# Altium integrated library NSC MiscPower.IntLib: 675 symbols (part 5 of 17)
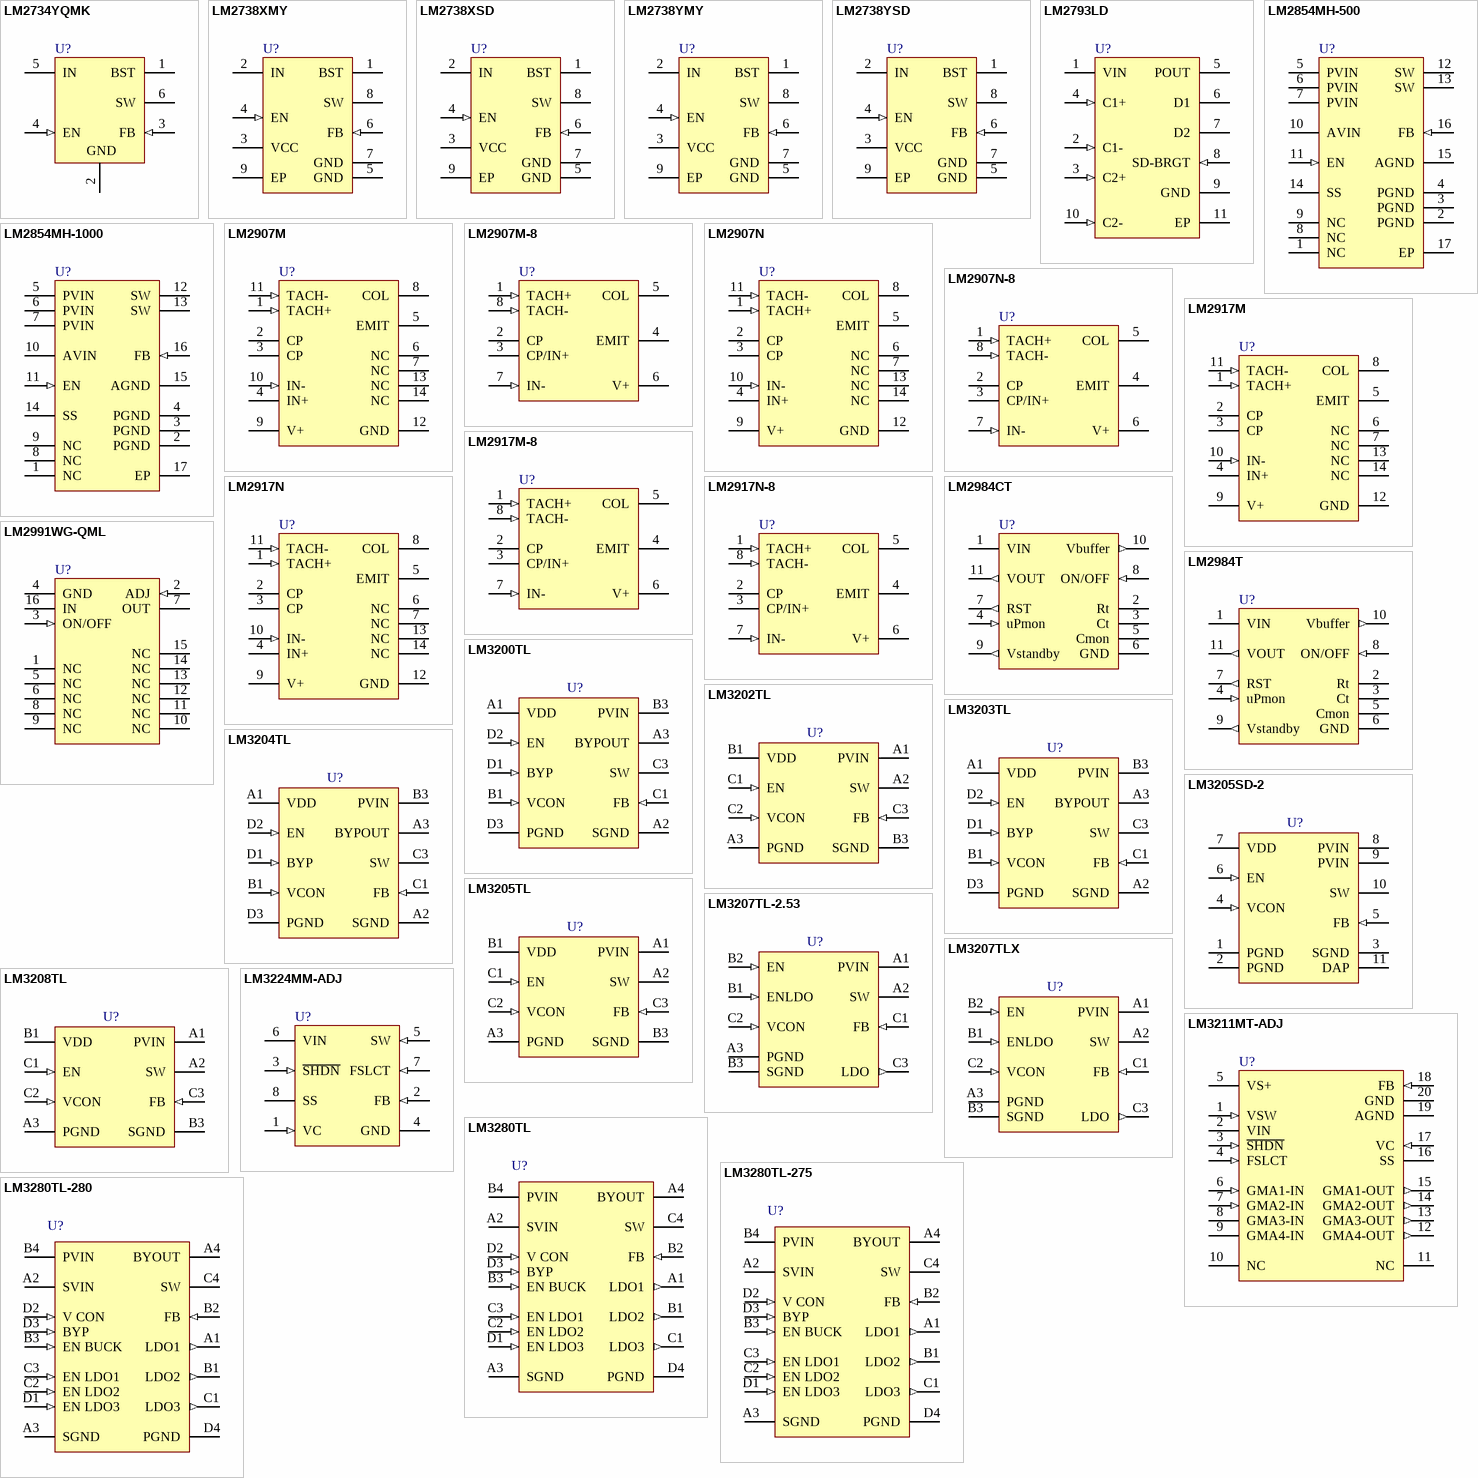
[diagram p26: symbols LM2734YQMK to LM3280TL-280]

## LM2738YSD
designator U?
550kHz/1.6MHz 1.5A Step-Down DC-DC Switching Regulator; PartNumber: LM2738YSD; Manufacturer: National Semiconductor; CompType: MiscPower; PackageTopMarking: ZXYTT*L174B; Published: 4-Dec-2008; DatasheetVersion: Apr-2008; PackageVersion: revA, Aug-2003; PackageReference: SDA08A; Publisher: Altium Limited; PackageDescription: LLP, Plastic, Dual, 3 x 3 x 0.8mm Body, 8 Lead, 0.5mm Pitch, No Pullback; RoHS: Y; PinCount: 8; DigiKeyPartNumber: LM2738YSDCT-ND; ComponentLink1Description: LM2738 Datasheet; ComponentLink1URL: http://www.national.com/ds/LM/LM2738.pdf; ComponentLink2Description: LM2738 Web Page; ComponentLink2URL: http://www.national.com/pf/LM/LM2738.html; ComponentLink3Description: SDA08A Package Page; ComponentLink3URL: http://www.national.com/packaging/folders/sda08a.html
footprint SDA08A (SON, 8-Leads, Body 3x3mm, Pitch 0.5mm, NSC Recommended)
pins: 1 BST, 2 IN (power), 3 VCC (power), 4 EN (in), 5 GND (power), 6 FB (in), 7 GND (power), 8 SW (power), 9 EP (power)

## LM2793LD
designator U?
Low Noise White LED Constant Current Supply with Dual Function Brightness Control; PartNumber: LM2793LD; Manufacturer: National Semiconductor; CompType: MiscPower; PackageTopMarking: ZXYTT*L2793; Published: 4-Dec-2008; DatasheetVersion: Feb-2003; PackageVersion: revB, Jan-2003; PackageReference: LDA10A; Publisher: Altium Limited; PackageDescription: LLP, Plastic, Dual, 3 x 3 x 0.75mm Body, 10 Lead, 0.5mm Pitch; RoHS: Y; PinCount: 10; DigiKeyPartNumber: LM2793LDEV-ND; ComponentLink1Description: LM2793 Datasheet; ComponentLink1URL: http://www.national.com/ds/LM/LM2793.pdf; ComponentLink2Description: LM2793 Web Page; ComponentLink2URL: http://www.national.com/pf/LM/LM2793.html; ComponentLink3Description: LDA10A Package Page; ComponentLink3URL: http://www.national.com/packaging/folders/lda10a.html
footprint LDA10A (PSON, 10-Leads, Body 3x3mm, Pitch 0.5mm, NSC Recommended)
pins: 1 VIN (power), 2 C1- (in), 3 C2+ (in), 4 C1+ (in), 5 POUT (power), 6 D1 (oc), 7 D2 (oc), 8 SD-BRGT (in), 9 GND (power), 10 C2- (in), 11 EP (power)

## LM2854MH-500
designator U?
4A 500 kHz / 1 MHz PowerWise Synchronous SIMPLE SWITCHER Buck Regulator; PartNumber: LM2854MH-500; Manufacturer: National Semiconductor; CompType: MiscPower; PackageTopMarking: NSUZXYTT*LM2854*-500; Published: 4-Dec-2008; DatasheetVersion: Apr-2008; PackageVersion: revA, Apr-2003; PackageReference: MXA16A; Publisher: Altium Limited; PackageDescription: Molded TSSOP, Jedec, Exposed Pad, 5.0 x 4.4 x 0.9mm Body,16 Lead, 0.65mm Pitch; RoHS: Y; PinCount: 16; DigiKeyPartNumber: LM2854MH-500-ND; Code_JEDEC: MO-153-ABT; ComponentLink1Description: LM2854 Datasheet; ComponentLink1URL: http://www.national.com/ds/LM/LM2854.pdf; ComponentLink2Description: LM2854 Web Page; ComponentLink2URL: http://www.national.com/pf/LM/LM2854.html; ComponentLink3Description: MXA16A Package Page; ComponentLink3URL: http://www.national.com/packaging/folders/mxa16a.html
footprint MXA16A_N (TSOP, 16-Leads, Body 5x4.4mm, Pitch 0.65mm, Exposed Pad, IPC Medium Density)
footprint MXA16A_L (TSOP, 16-Leads, Body 5x4.4mm, Pitch 0.65mm, Exposed Pad, IPC High Density)
footprint MXA16A_M (TSOP, 16-Leads, Body 5x4.4mm, Pitch 0.65mm, Exposed Pad, IPC Low Density)
pins: 1 NC, 2 PGND (power), 3 PGND (power), 4 PGND (power), 5 PVIN (power), 6 PVIN (power), 7 PVIN (power), 8 NC, 9 NC, 10 AVIN (power), 11 EN (in), 12 SW (power), 13 SW (power), 14 SS, 15 AGND (power), 16 FB (in), 17 EP (power)

## LM2854MH-1000
designator U?
4A 500 kHz / 1 MHz PowerWise Synchronous SIMPLE SWITCHER Buck Regulator; PartNumber: LM2854MH-1000; Manufacturer: National Semiconductor; CompType: MiscPower; PackageTopMarking: NSUZXYTT*LM2854*-1000; Published: 4-Dec-2008; DatasheetVersion: Apr-2008; PackageVersion: revA, Apr-2003; PackageReference: MXA16A; Publisher: Altium Limited; PackageDescription: Molded TSSOP, Jedec, Exposed Pad, 5.0 x 4.4 x 0.9mm Body,16 Lead, 0.65mm Pitch; RoHS: Y; PinCount: 16; DigiKeyPartNumber: LM2854MH-1000-ND; Code_JEDEC: MO-153-ABT; ComponentLink1Description: LM2854 Datasheet; ComponentLink1URL: http://www.national.com/ds/LM/LM2854.pdf; ComponentLink2Description: LM2854 Web Page; ComponentLink2URL: http://www.national.com/pf/LM/LM2854.html; ComponentLink3Description: MXA16A Package Page; ComponentLink3URL: http://www.national.com/packaging/folders/mxa16a.html
footprint MXA16A_N (TSOP, 16-Leads, Body 5x4.4mm, Pitch 0.65mm, Exposed Pad, IPC Medium Density)
footprint MXA16A_L (TSOP, 16-Leads, Body 5x4.4mm, Pitch 0.65mm, Exposed Pad, IPC High Density)
footprint MXA16A_M (TSOP, 16-Leads, Body 5x4.4mm, Pitch 0.65mm, Exposed Pad, IPC Low Density)
pins: 1 NC, 2 PGND (power), 3 PGND (power), 4 PGND (power), 5 PVIN (power), 6 PVIN (power), 7 PVIN (power), 8 NC, 9 NC, 10 AVIN (power), 11 EN (in), 12 SW (power), 13 SW (power), 14 SS, 15 AGND (power), 16 FB (in), 17 EP (power)

## LM2907M
designator U?
Frequency to Voltage Converter; PartNumber: LM2907M; Manufacturer: National Semiconductor; CompType: MiscPower; PackageTopMarking: NSUZXYTT*LM2907M; Published: 4-Dec-2008; DatasheetVersion: May-2003; PackageVersion: revJ, Jan-1996; PackageReference: M14A; Publisher: Altium Limited; PackageDescription: Molded Package S.O., .150in Wide, 14 Lead; RoHS: O; PinCount: 14; DigiKeyPartNumber: LM2907M-ND; Code_JEDEC: MS-012AB; Code_IPC: SOIC127P600-14; ComponentLink1Description: LM2907 Datasheet; ComponentLink1URL: http://www.national.com/ds/LM/LM2907.pdf; ComponentLink2Description: LM2907 Web Page; ComponentLink2URL: http://www.national.com/pf/LM/LM2907.html; ComponentLink3Description: M14A Package Page; ComponentLink3URL: http://www.national.com/packaging/folders/m14a.html
footprint M14A_N (SOIC, 14-Leads, Body 8.6x3.9mm, Pitch 1.27mm, IPC Medium Density)
footprint M14A_L (SOIC, 14-Leads, Body 8.6x3.9mm, Pitch 1.27mm, IPC High Density)
footprint M14A_M (SOIC, 14-Leads, Body 8.6x3.9mm, Pitch 1.27mm, IPC Low Density)
pins: 1 TACH+ (in), 2 CP, 3 CP, 4 IN+, 5 EMIT, 6 NC, 7 NC, 8 COL, 9 V+ (power), 10 IN- (in), 11 TACH- (in), 12 GND (power), 13 NC, 14 NC

## LM2907M-8
designator U?
Frequency to Voltage Converter; PartNumber: LM2907M-8; Manufacturer: National Semiconductor; CompType: MiscPower; PackageTopMarking: NSZXTT*LM29*07M-8; Published: 4-Dec-2008; DatasheetVersion: May-2003; PackageVersion: revL, Sep-2006; PackageReference: M08A; Publisher: Altium Limited; PackageDescription: SOIC Narrow, 4.9 x 3.9 x 1.45mm, 8 Lead, 1.27mm Pitch; RoHS: Y; PinCount: 8; DigiKeyPartNumber: LM2907M-8-ND; Code_JEDEC: MS-012-AA; Code_IPC: SOIC127P600-8; ComponentLink1Description: LM2907 Datasheet; ComponentLink1URL: http://www.national.com/ds/LM/LM2907.pdf; ComponentLink2Description: LM2907 Web Page; ComponentLink2URL: http://www.national.com/pf/LM/LM2907.html; ComponentLink3Description: M08A Package Page; ComponentLink3URL: http://www.national.com/packaging/folders/m08a.html
footprint M08A_N (SOIC, 8-Leads, Body 4.9x3.9mm, Pitch 1.27mm, IPC Medium Density)
footprint M08A_L (SOIC, 8-Leads, Body 4.9x3.9mm, Pitch 1.27mm, IPC High Density)
footprint M08A_M (SOIC, 8-Leads, Body 4.9x3.9mm, Pitch 1.27mm, IPC Low Density)
pins: 1 TACH+ (in), 2 CP, 3 CP/IN+, 4 EMIT, 5 COL, 6 V+ (power), 7 IN- (in), 8 TACH- (in)

## LM2907N
designator U?
Frequency to Voltage Converter; PartNumber: LM2907N; Manufacturer: National Semiconductor; CompType: MiscPower; PackageTopMarking: NSUZXYYTTE#*LM2907N; Published: 4-Dec-2008; DatasheetVersion: May-2003; PackageVersion: revG, May-2006; PackageReference: N14A; Publisher: Altium Limited; PackageDescription: MDIP, .750 x .250 x.130in, 14 Lead, .100in Pitch; RoHS: O; PinCount: 14; DigiKeyPartNumber: LM2907N-ND; Code_JEDEC: MS-001-AA; ComponentLink1Description: LM2907 Datasheet; ComponentLink1URL: http://www.national.com/ds/LM/LM2907.pdf; ComponentLink2Description: LM2907 Web Page; ComponentLink2URL: http://www.national.com/pf/LM/LM2907.html; ComponentLink3Description: N14A Package Page; ComponentLink3URL: http://www.national.com/packaging/folders/n14a.html
footprint N14A (DIP, 14-Leads, Row Spacing 7.62mm, Pitch 2.54mm, Body 19.56x6.35mm)
pins: 1 TACH+ (in), 2 CP, 3 CP, 4 IN+, 5 EMIT, 6 NC, 7 NC, 8 COL, 9 V+ (power), 10 IN- (in), 11 TACH- (in), 12 GND (power), 13 NC, 14 NC

## LM2907N-8
designator U?
Frequency to Voltage Converter; PartNumber: LM2907N-8; Manufacturer: National Semiconductor; CompType: MiscPower; PackageTopMarking: NSUZXYTT*LM*2907N-8; Published: 4-Dec-2008; DatasheetVersion: May-2003; PackageVersion: revG, May-2006; PackageReference: N08E; Publisher: Altium Limited; PackageDescription: MDIP, .365 x .250 x .130in, 8 Lead, .100in Pitch; RoHS: O; PinCount: 8; DigiKeyPartNumber: LM2907N-8-ND; Code_JEDEC: MS-001-BA; ComponentLink1Description: LM2907 Datasheet; ComponentLink1URL: http://www.national.com/ds/LM/LM2907.pdf; ComponentLink2Description: LM2907 Web Page; ComponentLink2URL: http://www.national.com/pf/LM/LM2907.html; ComponentLink3Description: N08E Package Page; ComponentLink3URL: http://www.national.com/packaging/folders/n08e.html
footprint N08E (DIP, 8-Leads, Row Spacing 7.62mm, Pitch 2.54mm, Body 9.91x6.35mm)
pins: 1 TACH+ (in), 2 CP, 3 CP/IN+, 4 EMIT, 5 COL, 6 V+ (power), 7 IN- (in), 8 TACH- (in)

## LM2917M
designator U?
Frequency to Voltage Converter; PartNumber: LM2917M; Manufacturer: National Semiconductor; CompType: MiscPower; PackageTopMarking: NSUZXYTT*LM2917M; Published: 4-Dec-2008; DatasheetVersion: May-2003; PackageVersion: revJ, Jan-1996; PackageReference: M14A; Publisher: Altium Limited; PackageDescription: Molded Package S.O., .150in Wide, 14 Lead; RoHS: O; PinCount: 14; DigiKeyPartNumber: LM2917M-ND; Code_JEDEC: MS-012AB; Code_IPC: SOIC127P600-14; ComponentLink1Description: LM2917 Datasheet; ComponentLink1URL: http://www.national.com/ds/LM/LM2917.pdf; ComponentLink2Description: LM2917 Web Page; ComponentLink2URL: http://www.national.com/pf/LM/LM2917.html; ComponentLink3Description: M14A Package Page; ComponentLink3URL: http://www.national.com/packaging/folders/m14a.html
footprint M14A_N (SOIC, 14-Leads, Body 8.6x3.9mm, Pitch 1.27mm, IPC Medium Density)
footprint M14A_L (SOIC, 14-Leads, Body 8.6x3.9mm, Pitch 1.27mm, IPC High Density)
footprint M14A_M (SOIC, 14-Leads, Body 8.6x3.9mm, Pitch 1.27mm, IPC Low Density)
pins: 1 TACH+ (in), 2 CP, 3 CP, 4 IN+, 5 EMIT, 6 NC, 7 NC, 8 COL, 9 V+ (power), 10 IN- (in), 11 TACH- (in), 12 GND (power), 13 NC, 14 NC

## LM2917M-8
designator U?
Frequency to Voltage Converter; PartNumber: LM2917M-8; Manufacturer: National Semiconductor; CompType: MiscPower; PackageTopMarking: NSZXTT*LM29*17M-8; Published: 4-Dec-2008; DatasheetVersion: May-2003; PackageVersion: revL, Sep-2006; PackageReference: M08A; Publisher: Altium Limited; PackageDescription: SOIC Narrow, 4.9 x 3.9 x 1.45mm, 8 Lead, 1.27mm Pitch; RoHS: O; PinCount: 8; DigiKeyPartNumber: LM2917M-8-ND; Code_JEDEC: MS-012-AA; Code_IPC: SOIC127P600-8; ComponentLink1Description: LM2917 Datasheet; ComponentLink1URL: http://www.national.com/ds/LM/LM2917.pdf; ComponentLink2Description: LM2917 Web Page; ComponentLink2URL: http://www.national.com/pf/LM/LM2917.html; ComponentLink3Description: M08A Package Page; ComponentLink3URL: http://www.national.com/packaging/folders/m08a.html
footprint M08A_N (SOIC, 8-Leads, Body 4.9x3.9mm, Pitch 1.27mm, IPC Medium Density)
footprint M08A_L (SOIC, 8-Leads, Body 4.9x3.9mm, Pitch 1.27mm, IPC High Density)
footprint M08A_M (SOIC, 8-Leads, Body 4.9x3.9mm, Pitch 1.27mm, IPC Low Density)
pins: 1 TACH+ (in), 2 CP, 3 CP/IN+, 4 EMIT, 5 COL, 6 V+ (power), 7 IN- (in), 8 TACH- (in)

## LM2917N
designator U?
Frequency to Voltage Converter; PartNumber: LM2917N; Manufacturer: National Semiconductor; CompType: MiscPower; PackageTopMarking: NSUZXYYTTE#*LM2917N; Published: 4-Dec-2008; DatasheetVersion: May-2003; PackageVersion: revG, May-2006; PackageReference: N14A; Publisher: Altium Limited; PackageDescription: MDIP, .750 x .250 x.130in, 14 Lead, .100in Pitch; RoHS: O; PinCount: 14; DigiKeyPartNumber: LM2917N-ND; Code_JEDEC: MS-001-AA; ComponentLink1Description: LM2917 Datasheet; ComponentLink1URL: http://www.national.com/ds/LM/LM2917.pdf; ComponentLink2Description: LM2917 Web Page; ComponentLink2URL: http://www.national.com/pf/LM/LM2917.html; ComponentLink3Description: N14A Package Page; ComponentLink3URL: http://www.national.com/packaging/folders/n14a.html
footprint N14A (DIP, 14-Leads, Row Spacing 7.62mm, Pitch 2.54mm, Body 19.56x6.35mm)
pins: 1 TACH+ (in), 2 CP, 3 CP, 4 IN+, 5 EMIT, 6 NC, 7 NC, 8 COL, 9 V+ (power), 10 IN- (in), 11 TACH- (in), 12 GND (power), 13 NC, 14 NC

## LM2917N-8
designator U?
Frequency to Voltage Converter; PartNumber: LM2917N-8; Manufacturer: National Semiconductor; CompType: MiscPower; PackageTopMarking: NSUZXYTT*LM*2917N-8; Published: 4-Dec-2008; DatasheetVersion: May-2003; PackageVersion: revG, May-2006; PackageReference: N08E; Publisher: Altium Limited; PackageDescription: MDIP, .365 x .250 x .130in, 8 Lead, .100in Pitch; RoHS: O; PinCount: 8; DigiKeyPartNumber: LM2917N-8-ND; Code_JEDEC: MS-001-BA; ComponentLink1Description: LM2917 Datasheet; ComponentLink1URL: http://www.national.com/ds/LM/LM2917.pdf; ComponentLink2Description: LM2917 Web Page; ComponentLink2URL: http://www.national.com/pf/LM/LM2917.html; ComponentLink3Description: N08E Package Page; ComponentLink3URL: http://www.national.com/packaging/folders/n08e.html
footprint N08E (DIP, 8-Leads, Row Spacing 7.62mm, Pitch 2.54mm, Body 9.91x6.35mm)
pins: 1 TACH+ (in), 2 CP, 3 CP/IN+, 4 EMIT, 5 COL, 6 V+ (power), 7 IN- (in), 8 TACH- (in)

## LM2984CT
designator U?
Microprocessor Power Supply System; PartNumber: LM2984CT; Manufacturer: National Semiconductor; CompType: MiscPower; PackageTopMarking: NSUZXYTTE#*LM2984CT*P+; Published: 4-Dec-2008; DatasheetVersion: May-1989; PackageVersion: revA, Mar-1987; PackageReference: TA11B; Publisher: Altium Limited; PackageDescription: TO-220, Molded, .788 x .421in Body, 11 Lead, .067in Pitch; RoHS: Y; PinCount: 11; DigiKeyPartNumber: LM2984CT-ND; ComponentLink1Description: LM2984C Datasheet; ComponentLink1URL: http://www.national.com/ds/LM/LM2984C.pdf; ComponentLink2Description: LM2984C Web Page; ComponentLink2URL: http://www.national.com/pf/LM/LM2984C.html; ComponentLink3Description: TA11B Package Page; ComponentLink3URL: http://www.national.com/packaging/folders/ta11b.html
footprint TA11B (TO, Thru-Hole, Vertical, Heatsink Mounted; 11 Bent Staggered Leads; Pitch 1.7 mm)
pins: 1 VIN (power), 2 Rt, 3 Ct, 4 uPmon (in), 5 Cmon, 6 GND (power), 7 RST (out), 8 ON/OFF (in), 9 Vstandby (out), 10 Vbuffer (out), 11 VOUT (out)

## LM2984T
designator U?
Microprocessor Power Supply System; PartNumber: LM2984T; Manufacturer: National Semiconductor; CompType: MiscPower; PackageTopMarking: NSUZXYTTE#*LM2984T; Published: 4-Dec-2008; DatasheetVersion: Apr-1998; PackageVersion: revA, Mar-1987; PackageReference: TA11B; Publisher: Altium Limited; PackageDescription: TO-220, Molded, .788 x .421in Body, 11 Lead, .067in Pitch; RoHS: N; PinCount: 11; DigiKeyPartNumber: LM2984T-ND; ComponentLink1Description: LM2984 Datasheet; ComponentLink1URL: http://www.national.com/ds/LM/LM2984.pdf; ComponentLink2Description: LM2984 Web Page; ComponentLink2URL: http://www.national.com/pf/LM/LM2984.html; ComponentLink3Description: TA11B Package Page; ComponentLink3URL: http://www.national.com/packaging/folders/ta11b.html
footprint TA11B (TO, Thru-Hole, Vertical, Heatsink Mounted; 11 Bent Staggered Leads; Pitch 1.7 mm)
pins: 1 VIN (power), 2 Rt, 3 Ct, 4 uPmon (in), 5 Cmon, 6 GND (power), 7 RST (out), 8 ON/OFF (in), 9 Vstandby (out), 10 Vbuffer (out), 11 VOUT (out)

## LM2991WG-QML
designator U?
Negative Low Dropout Adjustable Regulator; PartNumber: LM2991WG-QML; Manufacturer: National Semiconductor; CompType: MiscPower; PackageTopMarking: NSZSSXXYYA*LM2991WG-*QML Q 5962-*9650501QXA; Published: 4-Dec-2008; DatasheetVersion: Sep-2000; PackageVersion: revE, Jul-2007; PackageReference: WG16A; Publisher: Altium Limited; PackageDescription: Cerpack, .390 x .250 x .070in, 16 Lead, .050in Pitch, Gull Wing; RoHS: N; PinCount: 16; ComponentLink1Description: LM2991 Datasheet; ComponentLink1URL: http://www.national.com/ds/LM/LM2991.pdf; ComponentLink2Description: LM2991 Web Page; ComponentLink2URL: http://www.national.com/pf/LM/LM2991.html; ComponentLink3Description: WG16A Package Page; ComponentLink3URL: http://www.national.com/packaging/folders/wg16a.html
footprint WG16A_N (CERPACK, 16-Leads, Body 9.9x6.5mm, Pitch 1.27mm, IPC Medium Density)
footprint WG16A_L (CERPACK, 16-Leads, Body 9.9x6.5mm, Pitch 1.27mm, IPC High Density)
footprint WG16A_M (CERPACK, 16-Leads, Body 9.9x6.5mm, Pitch 1.27mm, IPC Low Density)
pins: 1 NC, 2 ADJ (in), 3 ON/OFF (in), 4 GND (power), 5 NC, 6 NC, 7 OUT (power), 8 NC, 9 NC, 10 NC, 11 NC, 12 NC, 13 NC, 14 NC, 15 NC, 16 IN (power)

## LM3200TL
designator U?
Miniature, Adjustable, Step-Down DC-DC Converter with Bypass Mode for RF Power Amplifiers; PartNumber: LM3200TL; Manufacturer: National Semiconductor; CompType: MiscPower; PackageTopMarking: XYTT*I SCUB; Published: 4-Dec-2008; DatasheetVersion: Nov-2005; PackageVersion: revD, Mar-2004; PackageReference: TLP10NHA; Publisher: Altium Limited; PackageDescription: Thin Micro SMD, 10 Bump (Large), Periperal, 0.5mm Pitch; RoHS: Y; PinCount: 10; DigiKeyPartNumber: LM3200TLCT-ND; Code_JEDEC: MO-211-BD; ComponentLink1Description: LM3200 Datasheet; ComponentLink1URL: http://www.national.com/ds/LM/LM3200.pdf; ComponentLink2Description: LM3200 Web Page; ComponentLink2URL: http://www.national.com/pf/LM/LM3200.html; ComponentLink3Description: TLP10NHA Package Page; ComponentLink3URL: http://www.national.com/packaging/folders/tlp10nha.html
footprint TLP10NHA (Micro SMD, 10-Leads, Body 2.17x1.82mm, Pitch 0.5mm, NSC Recommended)
pins: A1 VDD (power), A2 SGND (power), A3 BYPOUT (oe), B1 VCON (in), B3 PVIN (power), C1 FB (in), C3 SW, D1 BYP (in), D2 EN (in), D3 PGND (power)

## LM3202TL
designator U?
650mA Miniature, Adjustable, Step-Down DC-DC Converter for RF Power Amplifiers; PartNumber: LM3202TL; Manufacturer: National Semiconductor; CompType: MiscPower; PackageTopMarking: XVS*I 29; Published: 4-Dec-2008; DatasheetVersion: Nov-2006; PackageVersion: revC, Jan-2004; PackageReference: TLA08HPA; Publisher: Altium Limited; PackageDescription: Thin Micro SMD, 8 Bump (Large), 0.5mm Pitch; RoHS: Y; PinCount: 8; DigiKeyPartNumber: LM3202TLCT-ND; Code_JEDEC: MO-211-DD; ComponentLink1Description: LM3202 Datasheet; ComponentLink1URL: http://www.national.com/ds/LM/LM3202.pdf; ComponentLink2Description: LM3202 Web Page; ComponentLink2URL: http://www.national.com/pf/LM/LM3202.html; ComponentLink3Description: TLA08HPA Package Page; ComponentLink3URL: http://www.national.com/packaging/folders/tla08hpa.html
footprint TLA08HPA (Micro SMD, 8-Leads, Body 1.84x1.69mm, Pitch 0.5mm, NSC Recommended)
pins: A1 PVIN (power), A2 SW, A3 PGND (power), B1 VDD (power), B3 SGND (power), C1 EN (in), C2 VCON (in), C3 FB (in)

## LM3203TL
designator U?
Miniature, Adjustable, Step-Down DC-DC Converter with Bypass Mode for RF Power Amplifiers; PartNumber: LM3203TL; Manufacturer: National Semiconductor; CompType: MiscPower; PackageTopMarking: XYTT*I SFYB; Published: 4-Dec-2008; DatasheetVersion: Jul-2005; PackageVersion: revD, Mar-2004; PackageReference: TLP10NHA; Publisher: Altium Limited; PackageDescription: Thin Micro SMD, 10 Bump (Large), Periperal, 0.5mm Pitch; RoHS: Y; PinCount: 10; DigiKeyPartNumber: LM3203TLCT-ND; Code_JEDEC: MO-211-BD; ComponentLink1Description: LM3203 Datasheet; ComponentLink1URL: http://www.national.com/ds/LM/LM3203.pdf; ComponentLink2Description: LM3203 Web Page; ComponentLink2URL: http://www.national.com/pf/LM/LM3203.html; ComponentLink3Description: TLP10NHA Package Page; ComponentLink3URL: http://www.national.com/packaging/folders/tlp10nha.html
footprint TLP10NHA (Micro SMD, 10-Leads, Body 2.17x1.82mm, Pitch 0.5mm, NSC Recommended)
pins: A1 VDD (power), A2 SGND (power), A3 BYPOUT (oe), B1 VCON (in), B3 PVIN (power), C1 FB (in), C3 SW, D1 BYP (in), D2 EN (in), D3 PGND (power)

## LM3204TL
designator U?
Miniature, Adjustable, Step-Down DC-DC Converter with Bypass Mode for RF Power Amplifiers; PartNumber: LM3204TL; Manufacturer: National Semiconductor; CompType: MiscPower; PackageTopMarking: XYTT*I SJDB; Published: 4-Dec-2008; DatasheetVersion: Nov-2005; PackageVersion: revD, Mar-2004; PackageReference: TLP10NHA; Publisher: Altium Limited; PackageDescription: Thin Micro SMD, 10 Bump (Large), Periperal, 0.5mm Pitch; RoHS: Y; PinCount: 10; DigiKeyPartNumber: LM3204TLCT-ND; Code_JEDEC: MO-211-BD; ComponentLink1Description: LM3204 Datasheet; ComponentLink1URL: http://www.national.com/ds/LM/LM3204.pdf; ComponentLink2Description: LM3204 Web Page; ComponentLink2URL: http://www.national.com/pf/LM/LM3204.html; ComponentLink3Description: TLP10NHA Package Page; ComponentLink3URL: http://www.national.com/packaging/folders/tlp10nha.html
footprint TLP10NHA (Micro SMD, 10-Leads, Body 2.17x1.82mm, Pitch 0.5mm, NSC Recommended)
pins: A1 VDD (power), A2 SGND (power), A3 BYPOUT (oe), B1 VCON (in), B3 PVIN (power), C1 FB (in), C3 SW, D1 BYP (in), D2 EN (in), D3 PGND (power)

## LM3205SD-2
designator U?
650mA Miniature, Adjustable, Step-Down DC-DC Converter for RF Power Amplifiers; PartNumber: LM3205SD-2; Manufacturer: National Semiconductor; CompType: MiscPower; PackageTopMarking: ZXYTT*S006B; Published: 4-Dec-2008; DatasheetVersion: Jan-2006; PackageVersion: revA, Oct-2003; PackageReference: SDA10A; Publisher: Altium Limited; PackageDescription: LLP, Plastic, Dual, 3 x 3 x 0.8mm Body, 10 Lead, 0.5mm Pitch, No Pullback; RoHS: Y; PinCount: 10; DigiKeyPartNumber: LM3205SD-2-ND; ComponentLink1Description: LM3205 Datasheet; ComponentLink1URL: http://www.national.com/ds/LM/LM3205.pdf; ComponentLink2Description: LM3205 Web Page; ComponentLink2URL: http://www.national.com/pf/LM/LM3205.html; ComponentLink3Description: SDA10A Package Page; ComponentLink3URL: http://www.national.com/packaging/folders/sda10a.html
footprint SDA10A (SON, 10-Leads, Body 3x3 mm, Pitch 0.5mm, NSC Recommended)
pins: 1 PGND (power), 2 PGND (power), 3 SGND (power), 4 VCON (in), 5 FB (in), 6 EN (in), 7 VDD (power), 8 PVIN (power), 9 PVIN (power), 10 SW, 11 DAP (power)

## LM3205TL
designator U?
650mA Miniature, Adjustable, Step-Down DC-DC Converter for RF Power Amplifiers; PartNumber: LM3205TL; Manufacturer: National Semiconductor; CompType: MiscPower; PackageTopMarking: XVS*I 32; Published: 4-Dec-2008; DatasheetVersion: Jan-2006; PackageVersion: revC, Jan-2004; PackageReference: TLA08GNA; Publisher: Altium Limited; PackageDescription: Thin Micro SMD, 8 Bump (Large), 0.5mm Pitch; RoHS: Y; PinCount: 8; DigiKeyPartNumber: LM3205TLCT-ND; Code_JEDEC: MO-211-DD; ComponentLink1Description: LM3205 Datasheet; ComponentLink1URL: http://www.national.com/ds/LM/LM3205.pdf; ComponentLink2Description: LM3205 Web Page; ComponentLink2URL: http://www.national.com/pf/LM/LM3205.html; ComponentLink3Description: TLA08GNA Package Page; ComponentLink3URL: http://www.national.com/packaging/folders/tla08gna.html
footprint TLA08GNA (Micro SMD, 8-Leads, Body 1.82x1.67mm, Pitch 0.5mm, NSC Recommended)
pins: A1 PVIN (power), A2 SW, A3 PGND (power), B1 VDD (power), B3 SGND (power), C1 EN (in), C2 VCON (in), C3 FB (in)

## LM3207TL-2.53
designator U?
650mA Miniature, Adjustable, Step-Down DC-DC Converter for RF Power Amplifiers; PartNumber: LM3207TL-2.53; Manufacturer: National Semiconductor; CompType: MiscPower; PackageTopMarking: XVS*I 43; Published: 4-Dec-2008; DatasheetVersion: Apr-2007; PackageVersion: revC, Jan-2004; PackageReference: TLA09TTA; Publisher: Altium Limited; PackageDescription: Thin Micro SMD, 9 Bump (Large), 0.5mm Pitch; RoHS: Y; PinCount: 9; DigiKeyPartNumber: LM3207TL-2.53CT-ND; Code_JEDEC: MO-211-DD; ComponentLink1Description: LM3207 Datasheet; ComponentLink1URL: http://www.national.com/ds/LM/LM3207.pdf; ComponentLink2Description: LM3207 Web Page; ComponentLink2URL: http://www.national.com/pf/LM/LM3207.html; ComponentLink3Description: TLA09TTA Package Page; ComponentLink3URL: http://www.national.com/packaging/folders/tla09tta.html
footprint TLA09TTA (Micro SMD, 9-Leads, Body 1.95x1.95mm, Pitch 0.5mm, NSC Recommended)
pins: A1 PVIN (power), A2 SW, A3 PGND (power), B1 ENLDO (in), B2 EN (in), B3 SGND (power), C1 FB (in), C2 VCON (in), C3 LDO (out)

## LM3207TLX
designator U?
650mA Miniature, Adjustable, Step-Down DC-DC Converter for RF Power Amplifiers; PartNumber: LM3207TLX; Manufacturer: National Semiconductor; CompType: MiscPower; PackageTopMarking: XVS*I 34; Published: 4-Dec-2008; DatasheetVersion: Apr-2007; PackageVersion: revC, Jan-2004; PackageReference: TLA09TTA; Publisher: Altium Limited; PackageDescription: Thin Micro SMD, 9 Bump (Large), 0.5mm Pitch; RoHS: Y; PinCount: 9; DigiKeyPartNumber: LM3207TLX-ND; Code_JEDEC: MO-211-DD; ComponentLink1Description: LM3207 Datasheet; ComponentLink1URL: http://www.national.com/ds/LM/LM3207.pdf; ComponentLink2Description: LM3207 Web Page; ComponentLink2URL: http://www.national.com/pf/LM/LM3207.html; ComponentLink3Description: TLA09TTA Package Page; ComponentLink3URL: http://www.national.com/packaging/folders/tla09tta.html
footprint TLA09TTA (Micro SMD, 9-Leads, Body 1.95x1.95mm, Pitch 0.5mm, NSC Recommended)
pins: A1 PVIN (power), A2 SW, A3 PGND (power), B1 ENLDO (in), B2 EN (in), B3 SGND (power), C1 FB (in), C2 VCON (in), C3 LDO (out)

## LM3208TL
designator U?
650mA Miniature, Adjustable, Step-Down DC-DC Converter for RF Power Amplifiers; PartNumber: LM3208TL; Manufacturer: National Semiconductor; CompType: MiscPower; PackageTopMarking: XVS*I 33; Published: 4-Dec-2008; DatasheetVersion: Apr-2006; PackageVersion: revC, Jan-2004; PackageReference: TLA08GNA; Publisher: Altium Limited; PackageDescription: Thin Micro SMD, 8 Bump (Large), 0.5mm Pitch; RoHS: Y; PinCount: 8; DigiKeyPartNumber: LM3208TLCT-ND; Code_JEDEC: MO-211-DD; ComponentLink1Description: LM3208 Datasheet; ComponentLink1URL: http://www.national.com/ds/LM/LM3208.pdf; ComponentLink2Description: LM3208 Web Page; ComponentLink2URL: http://www.national.com/pf/LM/LM3208.html; ComponentLink3Description: TLA08GNA Package Page; ComponentLink3URL: http://www.national.com/packaging/folders/tla08gna.html
footprint TLA08GNA (Micro SMD, 8-Leads, Body 1.82x1.67mm, Pitch 0.5mm, NSC Recommended)
pins: A1 PVIN (power), A2 SW, A3 PGND (power), B1 VDD (power), B3 SGND (power), C1 EN (in), C2 VCON (in), C3 FB (in)

## LM3211MT-ADJ
designator U?
Step-up PWM DC/DC Converter Integrated with 4 Buffers; PartNumber: LM3211MT-ADJ; Manufacturer: National Semiconductor; CompType: MiscPower; PackageTopMarking: NSUZXYTT*LM3211*MTADJ; Published: 4-Dec-2008; DatasheetVersion: Feb-2004; PackageVersion: revE, Mar-2003; PackageReference: MTC20; Publisher: Altium Limited; PackageDescription: Molded TSSOP, Jedec, 6.5 x 4.4 x 0.9mm Body, 20 Lead, 0.65mm Pitch; RoHS: Y; PinCount: 20; DigiKeyPartNumber: LM3211MT-ADJ-ND; Code_JEDEC: MO-153-AC; ComponentLink1Description: LM3211 Datasheet; ComponentLink1URL: http://www.national.com/ds/LM/LM3211.pdf; ComponentLink2Description: LM3211 Web Page; ComponentLink2URL: http://www.national.com/pf/LM/LM3211.html; ComponentLink3Description: MTC20 Package Page; ComponentLink3URL: http://www.national.com/packaging/folders/mtc20.html
footprint MTC20_N (TSOP, 20-Leads, Body 6.5x4.4mm, Pitch 0.65mm, IPC Medium Density)
footprint MTC20_L (TSOP, 20-Leads, Body 6.5x4.4mm, Pitch 0.65mm, IPC High Density)
footprint MTC20_M (TSOP, 20-Leads, Body 6.5x4.4mm, Pitch 0.65mm, IPC Low Density)
pins: 1 VSW (in), 2 VIN (power), 3 ~{SHDN} (in), 4 FSLCT (in), 5 VS+ (power), 6 GMA1-IN (in), 7 GMA2-IN (in), 8 GMA3-IN, 9 GMA4-IN (power), 10 NC, 11 NC, 12 GMA4-OUT (out), 13 GMA3-OUT (out), 14 GMA2-OUT (out), 15 GMA1-OUT (out), 16 SS, 17 VC (in), 18 FB (in), 19 AGND (power), 20 GND (power)

## LM3224MM-ADJ
designator U?
615kHz/1.25MHz Step-up PWM DC/DC Converter; PartNumber: LM3224MM-ADJ; Manufacturer: National Semiconductor; CompType: MiscPower; PackageTopMarking: ZXTT*SEKB; Published: 4-Dec-2008; DatasheetVersion: Sep-2005; PackageVersion: revF, Apr-2008; PackageReference: MUA08A; Publisher: Altium Limited; PackageDescription: MINI SOIC, .118 x .118 x .034in, 8 Lead, .0256in Pitch; RoHS: Y; PinCount: 8; DigiKeyPartNumber: LM3224MM-ADJEV-ND; Code_JEDEC: MO-187-AA; ComponentLink1Description: LM3224 Datasheet; ComponentLink1URL: http://www.national.com/ds/LM/LM3224.pdf; ComponentLink2Description: LM3224 Web Page; ComponentLink2URL: http://www.national.com/pf/LM/LM3224.html; ComponentLink3Description: MUA08A Package Page; ComponentLink3URL: http://www.national.com/packaging/folders/mua08a.html
footprint MUA08A_N (TSOP, 8-Leads, Body 3x3mm, Pitch 0.65mm, IPC Medium Density)
footprint MUA08A_L (TSOP, 8-Leads, Body 3x3mm, Pitch 0.65mm, IPC High Density)
footprint MUA08A_M (TSOP, 8-Leads, Body 3x3mm, Pitch 0.65mm, IPC Low Density)
pins: 1 VC (in), 2 FB (in), 3 ~{SHDN} (in), 4 GND (power), 5 SW (in), 6 VIN (power), 7 FSLCT (in), 8 SS

## LM3280TL
designator U?
Adjustable Step-Down DC-DC Converter and 3 LDOs for RF Power Management; PartNumber: LM3280TL; Manufacturer: National Semiconductor; CompType: MiscPower; PackageTopMarking: XYTT*I V001; Published: 4-Dec-2008; DatasheetVersion: Jan-2007; PackageVersion: revC, Jan-2004; PackageReference: TLA16QQA; Publisher: Altium Limited; PackageDescription: Thin Micro SMD, 16 Bump (Large), 0.5mm Pitch; RoHS: Y; PinCount: 16; DigiKeyPartNumber: LM3280TLEV-ND; Code_JEDEC: MO-211-DF; ComponentLink1Description: LM3280 Datasheet; ComponentLink1URL: http://www.national.com/ds/LM/LM3280.pdf; ComponentLink2Description: LM3280 Web Page; ComponentLink2URL: http://www.national.com/pf/LM/LM3280.html; ComponentLink3Description: TLA16QQA Package Page; ComponentLink3URL: http://www.national.com/packaging/folders/tla16qqa.html
footprint TLA16QQA (Micro SMD, 16-Leads, Body 2.35x2.35mm, Pitch 0.5mm, NSC Recommended)
pins: A1 LDO1 (out), A2 SVIN (power), A3 SGND (power), A4 BYOUT (oc), B1 LDO2 (out), B2 FB (in), B3 EN BUCK (in), B4 PVIN (power), C1 LDO3 (out), C2 EN LDO2 (in), C3 EN LDO1 (in), C4 SW (power), D1 EN LDO3 (in), D2 V CON (in), D3 BYP (in), D4 PGND (power)

## LM3280TL-275
designator U?
Adjustable Step-Down DC-DC Converter and 3 LDOs for RF Power Management; PartNumber: LM3280TL-275; Manufacturer: National Semiconductor; CompType: MiscPower; PackageTopMarking: XYTT*I V002; Published: 4-Dec-2008; DatasheetVersion: Jan-2007; PackageVersion: revC, Jan-2004; PackageReference: TLA16QQA; Publisher: Altium Limited; PackageDescription: Thin Micro SMD, 16 Bump (Large), 0.5mm Pitch; RoHS: Y; PinCount: 16; DigiKeyPartNumber: LM3280TL-275CT-ND; Code_JEDEC: MO-211-DF; ComponentLink1Description: LM3280 Datasheet; ComponentLink1URL: http://www.national.com/ds/LM/LM3280.pdf; ComponentLink2Description: LM3280 Web Page; ComponentLink2URL: http://www.national.com/pf/LM/LM3280.html; ComponentLink3Description: TLA16QQA Package Page; ComponentLink3URL: http://www.national.com/packaging/folders/tla16qqa.html
footprint TLA16QQA (Micro SMD, 16-Leads, Body 2.35x2.35mm, Pitch 0.5mm, NSC Recommended)
pins: A1 LDO1 (out), A2 SVIN (power), A3 SGND (power), A4 BYOUT (oc), B1 LDO2 (out), B2 FB (in), B3 EN BUCK (in), B4 PVIN (power), C1 LDO3 (out), C2 EN LDO2 (in), C3 EN LDO1 (in), C4 SW (power), D1 EN LDO3 (in), D2 V CON (in), D3 BYP (in), D4 PGND (power)

## LM3280TL-280
designator U?
Adjustable Step-Down DC-DC Converter and 3 LDOs for RF Power Management; PartNumber: LM3280TL-280; Manufacturer: National Semiconductor; CompType: MiscPower; PackageTopMarking: XYTT*I V003; Published: 4-Dec-2008; DatasheetVersion: Jan-2007; PackageVersion: revC, Jan-2004; PackageReference: TLA16QQA; Publisher: Altium Limited; PackageDescription: Thin Micro SMD, 16 Bump (Large), 0.5mm Pitch; RoHS: Y; PinCount: 16; DigiKeyPartNumber: LM3280TL-280CT-ND; Code_JEDEC: MO-211-DF; ComponentLink1Description: LM3280 Datasheet; ComponentLink1URL: http://www.national.com/ds/LM/LM3280.pdf; ComponentLink2Description: LM3280 Web Page; ComponentLink2URL: http://www.national.com/pf/LM/LM3280.html; ComponentLink3Description: TLA16QQA Package Page; ComponentLink3URL: http://www.national.com/packaging/folders/tla16qqa.html
footprint TLA16QQA (Micro SMD, 16-Leads, Body 2.35x2.35mm, Pitch 0.5mm, NSC Recommended)
pins: A1 LDO1 (out), A2 SVIN (power), A3 SGND (power), A4 BYOUT (oc), B1 LDO2 (out), B2 FB (in), B3 EN BUCK (in), B4 PVIN (power), C1 LDO3 (out), C2 EN LDO2 (in), C3 EN LDO1 (in), C4 SW (power), D1 EN LDO3 (in), D2 V CON (in), D3 BYP (in), D4 PGND (power)

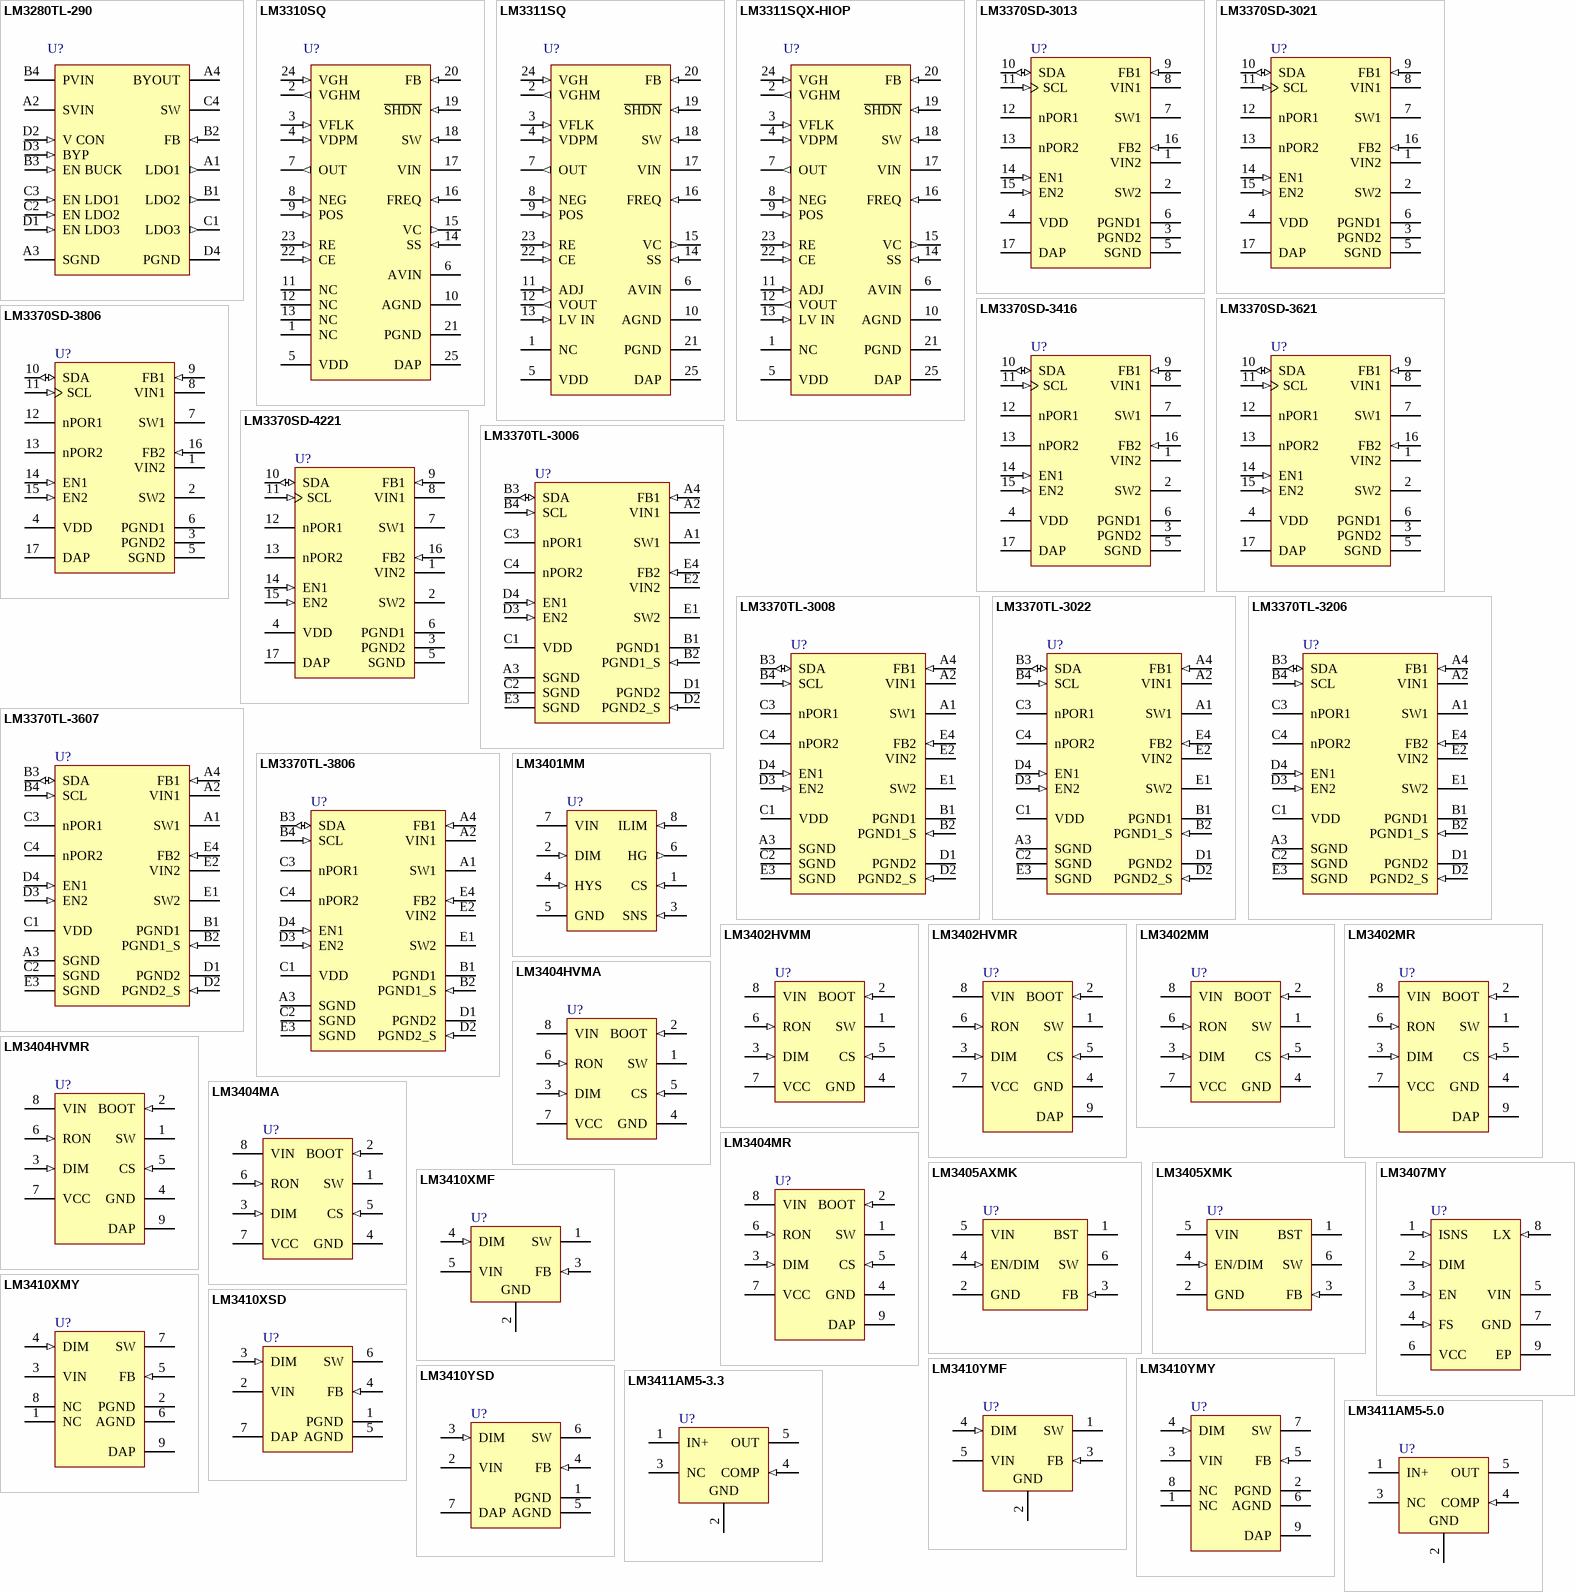
[diagram p6: symbols LM3280TL-290 to LM3411AM5-5.0]

## LM3280TL-290
designator U?
Adjustable Step-Down DC-DC Converter and 3 LDOs for RF Power Management; PartNumber: LM3280TL-290; Manufacturer: National Semiconductor; CompType: MiscPower; PackageTopMarking: XYTT*I V004; Published: 4-Dec-2008; DatasheetVersion: Jan-2007; PackageVersion: revC, Jan-2004; PackageReference: TLA16QQA; Publisher: Altium Limited; PackageDescription: Thin Micro SMD, 16 Bump (Large), 0.5mm Pitch; RoHS: Y; PinCount: 16; DigiKeyPartNumber: LM3280TL-290CT-ND; Code_JEDEC: MO-211-DF; ComponentLink1Description: LM3280 Datasheet; ComponentLink1URL: http://www.national.com/ds/LM/LM3280.pdf; ComponentLink2Description: LM3280 Web Page; ComponentLink2URL: http://www.national.com/pf/LM/LM3280.html; ComponentLink3Description: TLA16QQA Package Page; ComponentLink3URL: http://www.national.com/packaging/folders/tla16qqa.html
footprint TLA16QQA (Micro SMD, 16-Leads, Body 2.35x2.35mm, Pitch 0.5mm, NSC Recommended)
pins: A1 LDO1 (out), A2 SVIN (power), A3 SGND (power), A4 BYOUT (oc), B1 LDO2 (out), B2 FB (in), B3 EN BUCK (in), B4 PVIN (power), C1 LDO3 (out), C2 EN LDO2 (in), C3 EN LDO1 (in), C4 SW (power), D1 EN LDO3 (in), D2 V CON (in), D3 BYP (in), D4 PGND (power)

## LM3310SQ
designator U?
Step-Up PWM DC/DC Converter with Integrated Op-Amp and Gate Pulse Modulation Switch; PartNumber: LM3310SQ; Manufacturer: National Semiconductor; CompType: MiscPower; PackageTopMarking: NS*UZXYTT*L3310SQ; Published: 4-Dec-2008; DatasheetVersion: Nov-2007; PackageVersion: revB, Aug-2003; PackageReference: SQA24A; Publisher: Altium Limited; PackageDescription: LLP, Plastic, Quad, 4 x 4 x 0.8mm Body, 24 Lead, 0.5mm Pitch, No Pullback; RoHS: Y; PinCount: 24; DigiKeyPartNumber: LM3310SQCT-ND; Code_JEDEC: MO-220-WGGD-6; ComponentLink1Description: LM3310 Datasheet; ComponentLink1URL: http://www.national.com/ds/LM/LM3310.pdf; ComponentLink2Description: LM3310 Web Page; ComponentLink2URL: http://www.national.com/pf/LM/LM3310.html; ComponentLink3Description: SQA24A Package Page; ComponentLink3URL: http://www.national.com/packaging/folders/sqa24a.html
footprint SQA24A (QFN, 24-Leads, Body 4x4mm, Pitch 0.5mm, NSC Recommended)
pins: 1 NC, 2 VGHM (out), 3 VFLK (in), 4 VDPM (in), 5 VDD (power), 6 AVIN (power), 7 OUT (out), 8 NEG (in), 9 POS (in), 10 AGND (power), 11 NC, 12 NC, 13 NC, 14 SS (in), 15 VC (out), 16 FREQ (in), 17 VIN (power), 18 SW (in), 19 ~{SHDN} (in), 20 FB (in), 21 PGND (power), 22 CE (in), 23 RE (in), 24 VGH (in), 25 DAP (power)

## LM3311SQ
designator U?
Step-Up PWM DC/DC Converter with Integrated LDO, Op-Amp, and Gate Pulse Modulation Switch; PartNumber: LM3311SQ; Manufacturer: National Semiconductor; CompType: MiscPower; PackageTopMarking: NS*UZXYTT*L3311SQ; Published: 4-Dec-2008; DatasheetVersion: Nov-2007; PackageVersion: revB, Aug-2003; PackageReference: SQA24A; Publisher: Altium Limited; PackageDescription: LLP, Plastic, Quad, 4 x 4 x 0.8mm Body, 24 Lead, 0.5mm Pitch, No Pullback; RoHS: Y; PinCount: 24; DigiKeyPartNumber: LM3311SQCT-ND; Code_JEDEC: MO-220-WGGD-6; ComponentLink1Description: LM3311 Datasheet; ComponentLink1URL: http://www.national.com/ds/LM/LM3311.pdf; ComponentLink2Description: LM3311 Web Page; ComponentLink2URL: http://www.national.com/pf/LM/LM3311.html; ComponentLink3Description: SQA24A Package Page; ComponentLink3URL: http://www.national.com/packaging/folders/sqa24a.html
footprint SQA24A (QFN, 24-Leads, Body 4x4mm, Pitch 0.5mm, NSC Recommended)
pins: 1 NC, 2 VGHM (out), 3 VFLK (in), 4 VDPM (in), 5 VDD (power), 6 AVIN (power), 7 OUT (out), 8 NEG (in), 9 POS (in), 10 AGND (power), 11 ADJ (in), 12 VOUT (out), 13 LV IN (in), 14 SS (in), 15 VC (out), 16 FREQ (in), 17 VIN (power), 18 SW (in), 19 ~{SHDN} (in), 20 FB (in), 21 PGND (power), 22 CE (in), 23 RE (in), 24 VGH (in), 25 DAP (power)

## LM3311SQX-HIOP
designator U?
Step-Up PWM DC/DC Converter with Integrated LDO, Op-Amp, and Gate Pulse Modulation Switch; PartNumber: LM3311SQX-HIOP; Manufacturer: National Semiconductor; CompType: MiscPower; PackageTopMarking: NS*UZXYTT*L3311HP; Published: 4-Dec-2008; DatasheetVersion: Nov-2007; PackageVersion: revB, Aug-2003; PackageReference: SQA24A; Publisher: Altium Limited; PackageDescription: LLP, Plastic, Quad, 4 x 4 x 0.8mm Body, 24 Lead, 0.5mm Pitch, No Pullback; RoHS: Y; PinCount: 24; DigiKeyPartNumber: LM3311SQX-HIOP-ND; Code_JEDEC: MO-220-WGGD-6; ComponentLink1Description: LM3311 Datasheet; ComponentLink1URL: http://www.national.com/ds/LM/LM3311.pdf; ComponentLink2Description: LM3311 Web Page; ComponentLink2URL: http://www.national.com/pf/LM/LM3311.html; ComponentLink3Description: SQA24A Package Page; ComponentLink3URL: http://www.national.com/packaging/folders/sqa24a.html
footprint SQA24A (QFN, 24-Leads, Body 4x4mm, Pitch 0.5mm, NSC Recommended)
pins: 1 NC, 2 VGHM (out), 3 VFLK (in), 4 VDPM (in), 5 VDD (power), 6 AVIN (power), 7 OUT (out), 8 NEG (in), 9 POS (in), 10 AGND (power), 11 ADJ (in), 12 VOUT (out), 13 LV IN (in), 14 SS (in), 15 VC (out), 16 FREQ (in), 17 VIN (power), 18 SW (in), 19 ~{SHDN} (in), 20 FB (in), 21 PGND (power), 22 CE (in), 23 RE (in), 24 VGH (in), 25 DAP (power)

## LM3370SD-3013
designator U?
Dual Synchronous Step-Down DC-DC Converter with Dynamic Voltage Scaling Function; PartNumber: LM3370SD-3013; Manufacturer: National Semiconductor; CompType: MiscPower; PackageTopMarking: NS*UZXYTT*S0003UB; Published: 4-Dec-2008; DatasheetVersion: Jan-2008; PackageVersion: revA, Dec-2004; PackageReference: SDA16B; Publisher: Altium Limited; PackageDescription: LLP, Plastic, Dual, 5 x 4 x 0.8mm, 16 Lead, 0.5mm Pitch, No Pullback; RoHS: Y; PinCount: 16; DigiKeyPartNumber: LM3370SD-3013CT-ND; ComponentLink1Description: LM3370 Datasheet; ComponentLink1URL: http://www.national.com/ds/LM/LM3370.pdf; ComponentLink2Description: LM3370 Web Page; ComponentLink2URL: http://www.national.com/pf/LM/LM3370.html; ComponentLink3Description: SDA16B Package Page; ComponentLink3URL: http://www.national.com/packaging/folders/sda16b.html
footprint SDA16B (SON, 16-Leads, Body 5x4mm, Pitch 0.5mm, NSC Recommended)
pins: 1 VIN2 (power) "Power supply voltage input to PFET and NFET switches for Buck 2", 2 SW2 (power) "Buck 2 Switch Pin", 3 PGND2 (power) "Buck 2 Power Ground", 4 VDD (power) "Signal supply voltage input, VDDmust be equal or greater of the two inputs (VIN1& VIN2)", 5 SGND (power) "Signal GND", 6 PGND1 (power) "Buck 1 Power Ground", 7 SW1 (power) "Buck 1 Switch Pin", 8 VIN1 (power) "Power supply voltage input to PFET and NFET switches for Buck 1", 9 FB1 (in) "Analog Feedback Input for Buck 1", 10 SDA (io) "I2C Compatible Data, a 2 kOhm pull up resistor is required", 11 SCL (in) "I2C Compatible Clock, a 2 kOhm pull up resistor is required", 12 nPOR1 (oc) "Power ON Reset for Buck 1, Open drain output Low when Buck 1 output is 92% of target output.", 13 nPOR2 (oc) "Power ON Reset for Buck 2, Open drain output Low when Buck 2 output is 92% of target output.", 14 EN1 (in) "Buck 1 Enable", 15 EN2 (in) "Buck 2 Enable", 16 FB2 (in) "Analog feedback for Buck 2", 17 DAP (power)

## LM3370SD-3021
designator U?
Dual Synchronous Step-Down DC-DC Converter with Dynamic Voltage Scaling Function; PartNumber: LM3370SD-3021; Manufacturer: National Semiconductor; CompType: MiscPower; PackageTopMarking: NS*UZXYTT*S0003TB; Published: 4-Dec-2008; DatasheetVersion: Jan-2008; PackageVersion: revA, Dec-2004; PackageReference: SDA16B; Publisher: Altium Limited; PackageDescription: LLP, Plastic, Dual, 5 x 4 x 0.8mm, 16 Lead, 0.5mm Pitch, No Pullback; RoHS: Y; PinCount: 16; DigiKeyPartNumber: LM3370SD-3021EV-ND; ComponentLink1Description: LM3370 Datasheet; ComponentLink1URL: http://www.national.com/ds/LM/LM3370.pdf; ComponentLink2Description: LM3370 Web Page; ComponentLink2URL: http://www.national.com/pf/LM/LM3370.html; ComponentLink3Description: SDA16B Package Page; ComponentLink3URL: http://www.national.com/packaging/folders/sda16b.html
footprint SDA16B (SON, 16-Leads, Body 5x4mm, Pitch 0.5mm, NSC Recommended)
pins: 1 VIN2 (power) "Power supply voltage input to PFET and NFET switches for Buck 2", 2 SW2 (power) "Buck 2 Switch Pin", 3 PGND2 (power) "Buck 2 Power Ground", 4 VDD (power) "Signal supply voltage input, VDDmust be equal or greater of the two inputs (VIN1& VIN2)", 5 SGND (power) "Signal GND", 6 PGND1 (power) "Buck 1 Power Ground", 7 SW1 (power) "Buck 1 Switch Pin", 8 VIN1 (power) "Power supply voltage input to PFET and NFET switches for Buck 1", 9 FB1 (in) "Analog Feedback Input for Buck 1", 10 SDA (io) "I2C Compatible Data, a 2 kOhm pull up resistor is required", 11 SCL (in) "I2C Compatible Clock, a 2 kOhm pull up resistor is required", 12 nPOR1 (oc) "Power ON Reset for Buck 1, Open drain output Low when Buck 1 output is 92% of target output.", 13 nPOR2 (oc) "Power ON Reset for Buck 2, Open drain output Low when Buck 2 output is 92% of target output.", 14 EN1 (in) "Buck 1 Enable", 15 EN2 (in) "Buck 2 Enable", 16 FB2 (in) "Analog feedback for Buck 2", 17 DAP (power)

## LM3370SD-3416
designator U?
Dual Synchronous Step-Down DC-DC Converter with Dynamic Voltage Scaling Function; PartNumber: LM3370SD-3416; Manufacturer: National Semiconductor; CompType: MiscPower; PackageTopMarking: NS*UZXYTT*S0003VB; Published: 4-Dec-2008; DatasheetVersion: Jan-2008; PackageVersion: revA, Dec-2004; PackageReference: SDA16B; Publisher: Altium Limited; PackageDescription: LLP, Plastic, Dual, 5 x 4 x 0.8mm, 16 Lead, 0.5mm Pitch, No Pullback; RoHS: Y; PinCount: 16; DigiKeyPartNumber: LM3370SD-3416CT-ND; ComponentLink1Description: LM3370 Datasheet; ComponentLink1URL: http://www.national.com/ds/LM/LM3370.pdf; ComponentLink2Description: LM3370 Web Page; ComponentLink2URL: http://www.national.com/pf/LM/LM3370.html; ComponentLink3Description: SDA16B Package Page; ComponentLink3URL: http://www.national.com/packaging/folders/sda16b.html
footprint SDA16B (SON, 16-Leads, Body 5x4mm, Pitch 0.5mm, NSC Recommended)
pins: 1 VIN2 (power) "Power supply voltage input to PFET and NFET switches for Buck 2", 2 SW2 (power) "Buck 2 Switch Pin", 3 PGND2 (power) "Buck 2 Power Ground", 4 VDD (power) "Signal supply voltage input, VDDmust be equal or greater of the two inputs (VIN1& VIN2)", 5 SGND (power) "Signal GND", 6 PGND1 (power) "Buck 1 Power Ground", 7 SW1 (power) "Buck 1 Switch Pin", 8 VIN1 (power) "Power supply voltage input to PFET and NFET switches for Buck 1", 9 FB1 (in) "Analog Feedback Input for Buck 1", 10 SDA (io) "I2C Compatible Data, a 2 kOhm pull up resistor is required", 11 SCL (in) "I2C Compatible Clock, a 2 kOhm pull up resistor is required", 12 nPOR1 (oc) "Power ON Reset for Buck 1, Open drain output Low when Buck 1 output is 92% of target output.", 13 nPOR2 (oc) "Power ON Reset for Buck 2, Open drain output Low when Buck 2 output is 92% of target output.", 14 EN1 (in) "Buck 1 Enable", 15 EN2 (in) "Buck 2 Enable", 16 FB2 (in) "Analog feedback for Buck 2", 17 DAP (power)

## LM3370SD-3621
designator U?
Dual Synchronous Step-Down DC-DC Converter with Dynamic Voltage Scaling Function; PartNumber: LM3370SD-3621; Manufacturer: National Semiconductor; CompType: MiscPower; PackageTopMarking: NS*UZXYTT*S0004AB; Published: 4-Dec-2008; DatasheetVersion: Jan-2008; PackageVersion: revA, Dec-2004; PackageReference: SDA16B; Publisher: Altium Limited; PackageDescription: LLP, Plastic, Dual, 5 x 4 x 0.8mm, 16 Lead, 0.5mm Pitch, No Pullback; RoHS: Y; PinCount: 16; DigiKeyPartNumber: LM3370SD-3621-ND; ComponentLink1Description: LM3370 Datasheet; ComponentLink1URL: http://www.national.com/ds/LM/LM3370.pdf; ComponentLink2Description: LM3370 Web Page; ComponentLink2URL: http://www.national.com/pf/LM/LM3370.html; ComponentLink3Description: SDA16B Package Page; ComponentLink3URL: http://www.national.com/packaging/folders/sda16b.html
footprint SDA16B (SON, 16-Leads, Body 5x4mm, Pitch 0.5mm, NSC Recommended)
pins: 1 VIN2 (power) "Power supply voltage input to PFET and NFET switches for Buck 2", 2 SW2 (power) "Buck 2 Switch Pin", 3 PGND2 (power) "Buck 2 Power Ground", 4 VDD (power) "Signal supply voltage input, VDDmust be equal or greater of the two inputs (VIN1& VIN2)", 5 SGND (power) "Signal GND", 6 PGND1 (power) "Buck 1 Power Ground", 7 SW1 (power) "Buck 1 Switch Pin", 8 VIN1 (power) "Power supply voltage input to PFET and NFET switches for Buck 1", 9 FB1 (in) "Analog Feedback Input for Buck 1", 10 SDA (io) "I2C Compatible Data, a 2 kOhm pull up resistor is required", 11 SCL (in) "I2C Compatible Clock, a 2 kOhm pull up resistor is required", 12 nPOR1 (oc) "Power ON Reset for Buck 1, Open drain output Low when Buck 1 output is 92% of target output.", 13 nPOR2 (oc) "Power ON Reset for Buck 2, Open drain output Low when Buck 2 output is 92% of target output.", 14 EN1 (in) "Buck 1 Enable", 15 EN2 (in) "Buck 2 Enable", 16 FB2 (in) "Analog feedback for Buck 2", 17 DAP (power)

## LM3370SD-3806
designator U?
Dual Synchronous Step-Down DC-DC Converter with Dynamic Voltage Scaling Function; PartNumber: LM3370SD-3806; Manufacturer: National Semiconductor; CompType: MiscPower; PackageTopMarking: NS*UZXYTT*S0003XB; Published: 4-Dec-2008; DatasheetVersion: Jan-2008; PackageVersion: revA, Dec-2004; PackageReference: SDA16B; Publisher: Altium Limited; PackageDescription: LLP, Plastic, Dual, 5 x 4 x 0.8mm, 16 Lead, 0.5mm Pitch, No Pullback; RoHS: Y; PinCount: 16; DigiKeyPartNumber: LM3370SD-3806CT-ND; ComponentLink1Description: LM3370 Datasheet; ComponentLink1URL: http://www.national.com/ds/LM/LM3370.pdf; ComponentLink2Description: LM3370 Web Page; ComponentLink2URL: http://www.national.com/pf/LM/LM3370.html; ComponentLink3Description: SDA16B Package Page; ComponentLink3URL: http://www.national.com/packaging/folders/sda16b.html
footprint SDA16B (SON, 16-Leads, Body 5x4mm, Pitch 0.5mm, NSC Recommended)
pins: 1 VIN2 (power) "Power supply voltage input to PFET and NFET switches for Buck 2", 2 SW2 (power) "Buck 2 Switch Pin", 3 PGND2 (power) "Buck 2 Power Ground", 4 VDD (power) "Signal supply voltage input, VDDmust be equal or greater of the two inputs (VIN1& VIN2)", 5 SGND (power) "Signal GND", 6 PGND1 (power) "Buck 1 Power Ground", 7 SW1 (power) "Buck 1 Switch Pin", 8 VIN1 (power) "Power supply voltage input to PFET and NFET switches for Buck 1", 9 FB1 (in) "Analog Feedback Input for Buck 1", 10 SDA (io) "I2C Compatible Data, a 2 kOhm pull up resistor is required", 11 SCL (in) "I2C Compatible Clock, a 2 kOhm pull up resistor is required", 12 nPOR1 (oc) "Power ON Reset for Buck 1, Open drain output Low when Buck 1 output is 92% of target output.", 13 nPOR2 (oc) "Power ON Reset for Buck 2, Open drain output Low when Buck 2 output is 92% of target output.", 14 EN1 (in) "Buck 1 Enable", 15 EN2 (in) "Buck 2 Enable", 16 FB2 (in) "Analog feedback for Buck 2", 17 DAP (power)

## LM3370SD-4221
designator U?
Dual Synchronous Step-Down DC-DC Converter with Dynamic Voltage Scaling Function; PartNumber: LM3370SD-4221; Manufacturer: National Semiconductor; CompType: MiscPower; PackageTopMarking: NS*UZXYTT*S0003YB; Published: 4-Dec-2008; DatasheetVersion: Jan-2008; PackageVersion: revA, Dec-2004; PackageReference: SDA16B; Publisher: Altium Limited; PackageDescription: LLP, Plastic, Dual, 5 x 4 x 0.8mm, 16 Lead, 0.5mm Pitch, No Pullback; RoHS: Y; PinCount: 16; DigiKeyPartNumber: LM3370SD-4221CT-ND; ComponentLink1Description: LM3370 Datasheet; ComponentLink1URL: http://www.national.com/ds/LM/LM3370.pdf; ComponentLink2Description: LM3370 Web Page; ComponentLink2URL: http://www.national.com/pf/LM/LM3370.html; ComponentLink3Description: SDA16B Package Page; ComponentLink3URL: http://www.national.com/packaging/folders/sda16b.html
footprint SDA16B (SON, 16-Leads, Body 5x4mm, Pitch 0.5mm, NSC Recommended)
pins: 1 VIN2 (power) "Power supply voltage input to PFET and NFET switches for Buck 2", 2 SW2 (power) "Buck 2 Switch Pin", 3 PGND2 (power) "Buck 2 Power Ground", 4 VDD (power) "Signal supply voltage input, VDDmust be equal or greater of the two inputs (VIN1& VIN2)", 5 SGND (power) "Signal GND", 6 PGND1 (power) "Buck 1 Power Ground", 7 SW1 (power) "Buck 1 Switch Pin", 8 VIN1 (power) "Power supply voltage input to PFET and NFET switches for Buck 1", 9 FB1 (in) "Analog Feedback Input for Buck 1", 10 SDA (io) "I2C Compatible Data, a 2 kOhm pull up resistor is required", 11 SCL (in) "I2C Compatible Clock, a 2 kOhm pull up resistor is required", 12 nPOR1 (oc) "Power ON Reset for Buck 1, Open drain output Low when Buck 1 output is 92% of target output.", 13 nPOR2 (oc) "Power ON Reset for Buck 2, Open drain output Low when Buck 2 output is 92% of target output.", 14 EN1 (in) "Buck 1 Enable", 15 EN2 (in) "Buck 2 Enable", 16 FB2 (in) "Analog feedback for Buck 2", 17 DAP (power)